# Altium schematic symbol library Amplifier_Operational.SchLib: 414 symbols (part 1 of 5)
Pins are listed as number, name and electrical type; pins without a type are passive.

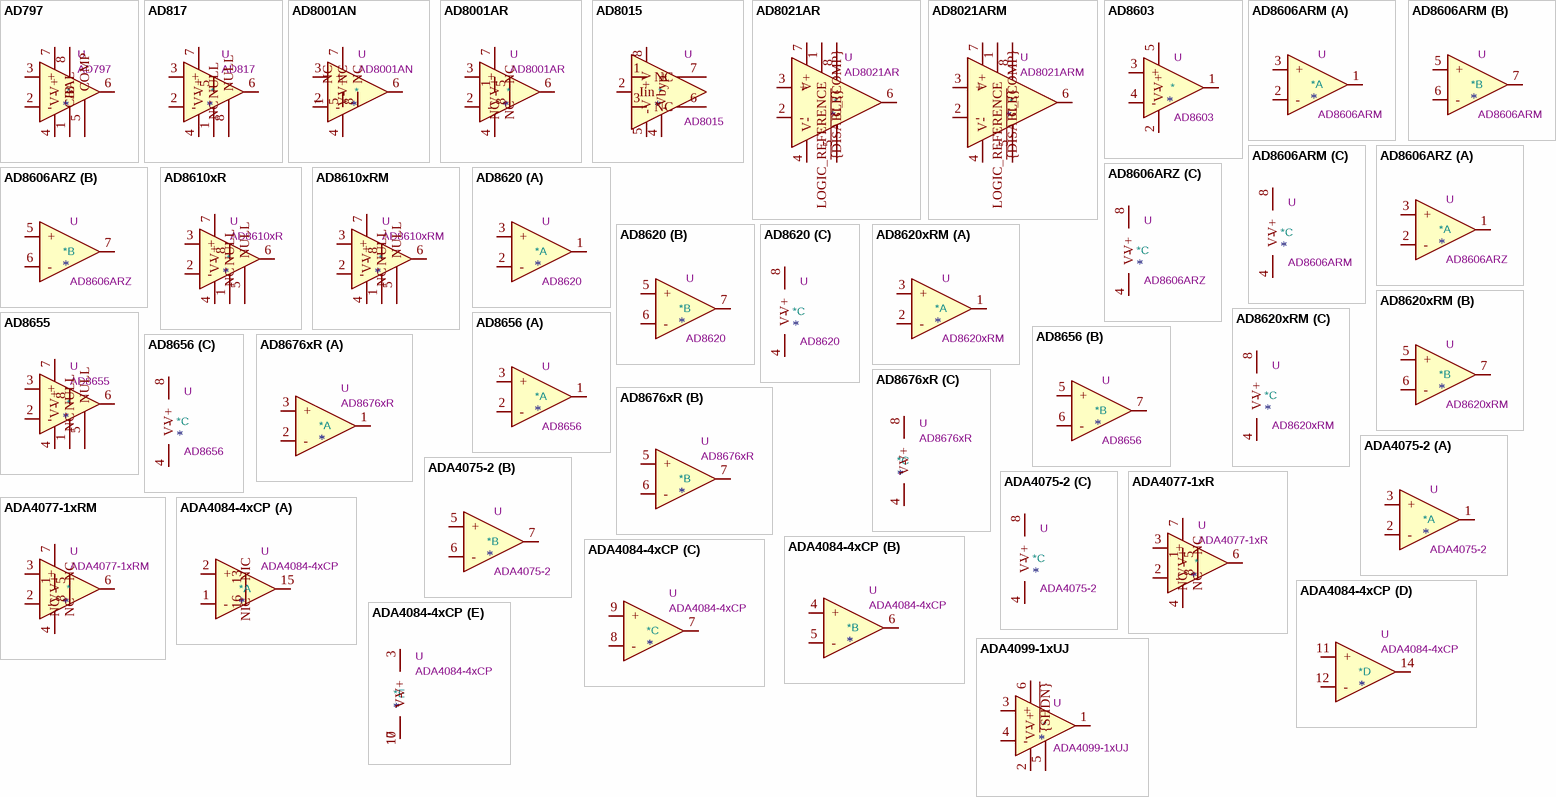
[diagram p0: symbols AD797 to ADA4099-1xUJ]

## AD797
designator *  value AD797  Reference: U
Ultralow Distortion, Ultralow Noise Op Amp, DIP-8/SOIC-8; ki_keywords: single opamp; ki_fp_filters: DIP*W7.62mm* SOIC*3.9x4.9mm*P1.27mm*; Datasheet: https://www.analog.com/media/en/technical-documentation/data-sheets/AD797.pdf; Description_: Ultralow Distortion, Ultralow Noise Op Amp, DIP-8/SOIC-8
pins: 1 BAL, 2 -, 3 +, 4 V-, 5 COMP, 6, 7 V+, 8 C/B

## AD817
designator *  value AD817  Reference: U
High Speed, Low Power Wide Supply Range Operational Amplifier, DIP-8/SOIC-8; ki_keywords: single opamp; ki_fp_filters: DIP?8?W7.62mm* SO?8?3.9x4.9mm*P1.27mm*; Datasheet: https://www.analog.com/media/en/technical-documentation/data-sheets/ad817.pdf; Description_: High Speed, Low Power Wide Supply Range Operational Amplifier, DIP-8/SOIC-8
pins: 1 NULL, 2 -, 3 +, 4 V-, 5 NC, 6, 7 V+, 8 NULL

## AD8001AN
designator *  value AD8001AN  Reference: U
Current Feedback Amplifier, 800 MHz, 50mW, DIP-8; ki_keywords: single opamp; ki_fp_filters: DIP*W7.62mm*; Footprint: Package_DIP:DIP-8_W7.62mm; Datasheet: https://www.analog.com/media/en/technical-documentation/data-sheets/ad8001.pdf; Description_: Current Feedback Amplifier, 800 MHz, 50mW, DIP-8
pins: 1 NC, 2 -, 3 +, 4 V-, 5 NC, 6, 7 V+, 8 NC

## AD8001AR
designator *  value AD8001AR  Reference: U
Current Feedback Amplifier, 800 MHz, 50mW, SOIC-8; ki_keywords: single opamp; ki_fp_filters: SOIC*3.9x4.9mm*P1.27mm*; Footprint: Package_SO:SOIC-8_3.9x4.9mm_P1.27mm; Datasheet: https://www.analog.com/media/en/technical-documentation/data-sheets/ad8001.pdf; Description_: Current Feedback Amplifier, 800 MHz, 50mW, SOIC-8
pins: 1 NC, 2 -, 3 +, 4 V-, 5 NC, 6, 7 V+, 8 NC

## AD8015
designator *  value AD8015  Reference: U
Wideband/Differential Output Transimpedance Amplifier, SOIC-8; ki_keywords: amplifier transimpedance differential optical receiver; ki_fp_filters: SOIC*3.9x4.9mm*P1.27mm*; Footprint: Package_SO:SOIC-8_3.9x4.9mm_P1.27mm; Datasheet: https://www.analog.com/media/en/technical-documentation/data-sheets/AD8015.pdf; Description_: Wideband/Differential Output Transimpedance Amplifier, SOIC-8
pins: 1 NC, 2 Iin, 3 NC, 4 Vbyp, 5 -V, 6 -, 7 +, 8 +V

## AD8021AR
designator *  value AD8021AR  Reference: U
Operational Amplifier, 4.5-24V single/dual supply, low noise, high speed, SOIC-8; ki_keywords: Opamp; ki_fp_filters: SOIC*3.9x4.9mm*P1.27mm*; Footprint: Package_SO:SOIC-8_3.9x4.9mm_P1.27mm; Datasheet: https://www.analog.com/media/en/technical-documentation/data-sheets/AD8021.pdf; Description_: Operational Amplifier, 4.5-24V single/dual supply, low noise, high speed, SOIC-8
pins: 1 LOGIC_REFERENCE, 2 -, 3 +, 4 V-, 5 C_{COMP}, 6, 7 V+, 8 ~{{DISABLE}}

## AD8021ARM
designator *  value AD8021ARM  Reference: U
Operational Amplifier, 4.5-24V single/dual supply, low noise, high speed, MSOP-8; ki_keywords: Opamp; ki_fp_filters: MSOP*3x3mm*P0.65mm*; Footprint: Package_SO:MSOP-8_3x3mm_P0.65mm; Datasheet: https://www.analog.com/media/en/technical-documentation/data-sheets/AD8021.pdf; Description_: Operational Amplifier, 4.5-24V single/dual supply, low noise, high speed, MSOP-8
pins: 1 LOGIC_REFERENCE, 2 -, 3 +, 4 V-, 5 C_{COMP}, 6, 7 V+, 8 ~{{DISABLE}}

## AD8603
designator *  value AD8603  Reference: U
Precision Micropower, Low Noise CMOS, Rail-to-Rail Input/Output Operational Amplifier, TSOT-23-5; ki_keywords: single opamp; ki_fp_filters: TSOT*23*; Footprint: Package_TO_SOT_SMD:TSOT-23-5; Datasheet: https://www.analog.com/media/en/technical-documentation/data-sheets/AD8603_8607_8609.pdf; Description_: Precision Micropower, Low Noise CMOS, Rail-to-Rail Input/Output Operational Amplifier, TSOT-23-5
pins: 1, 2 V-, 3 +, 4 -, 5 V+

## AD8606ARM
designator *  value AD8606ARM  Reference: U
Dual Precision Low Noise, Low Input Bias Current, Wide Bandwidth Operational Amplifiers, MSOP-8; ki_keywords: dual opamp; ki_fp_filters: MSOP*3x3mm*P0.65mm*; Footprint: Package_SO:MSOP-8_3x3mm_P0.65mm; Datasheet: https://www.analog.com/media/en/technical-documentation/data-sheets/AD8605_8606_8608.pdf; Description_: Dual Precision Low Noise, Low Input Bias Current, Wide Bandwidth Operational Amplifiers, MSOP-8
part A pins: 1, 2 -, 3 +
part B pins: 5 +, 6 -, 7
part C pins: 4 V-, 8 V+

## AD8606ARZ
designator *  value AD8606ARZ  Reference: U
Dual Precision Low Noise, Low Input Bias Current, Wide Bandwidth Operational Amplifiers, SOIC-8; ki_keywords: dual opamp; ki_fp_filters: SOIC*3.9x4.9mm*P1.27mm*; Footprint: Package_SO:SOIC-8_3.9x4.9mm_P1.27mm; Datasheet: https://www.analog.com/media/en/technical-documentation/data-sheets/AD8605_8606_8608.pdf; Description_: Dual Precision Low Noise, Low Input Bias Current, Wide Bandwidth Operational Amplifiers, SOIC-8
part A pins: 1, 2 -, 3 +
part B pins: 5 +, 6 -, 7
part C pins: 4 V-, 8 V+

## AD8610xR
designator *  value AD8610xR  Reference: U
Single Precision, Very Low Noise, Low Input Bias Current, Wide Bandwidth JFET Operational Amplifiers, SOIC-8; ki_keywords: single opamp; ki_fp_filters: SOIC*3.9x4.9mm*P1.27mm*; Footprint: Package_SO:SOIC-8_3.9x4.9mm_P1.27mm; Datasheet: https://www.analog.com/media/en/technical-documentation/data-sheets/AD8610_8620.pdf; Description_: Single Precision, Very Low Noise, Low Input Bias Current, Wide Bandwidth JFET Operational Amplifiers, SOIC-8
pins: 1 NULL, 2 -, 3 +, 4 V-, 5 NULL, 6, 7 V+, 8 NC

## AD8610xRM
designator *  value AD8610xRM  Reference: U
Single Precision, Very Low Noise, Low Input Bias Current, Wide Bandwidth JFET Operational Amplifiers, MSOP-8; ki_keywords: single opamp; ki_fp_filters: MSOP*3x3mm*P0.65mm*; Footprint: Package_SO:MSOP-8_3x3mm_P0.65mm; Datasheet: https://www.analog.com/media/en/technical-documentation/data-sheets/AD8610_8620.pdf; Description_: Single Precision, Very Low Noise, Low Input Bias Current, Wide Bandwidth JFET Operational Amplifiers, MSOP-8
pins: 1 NULL, 2 -, 3 +, 4 V-, 5 NULL, 6, 7 V+, 8 NC

## AD8620
designator *  value AD8620  Reference: U
Dual Precision, Very Low Noise, Low Input Bias Current, Wide Bandwidth JFET Operational Amplifiers, SOIC-8; ki_keywords: dual opamp; ki_fp_filters: SOIC*3.9x4.9mm*P1.27mm*; Footprint: Package_SO:SOIC-8_3.9x4.9mm_P1.27mm; Datasheet: https://www.analog.com/media/en/technical-documentation/data-sheets/AD8610_8620.pdf; Description_: Dual Precision, Very Low Noise, Low Input Bias Current, Wide Bandwidth JFET Operational Amplifiers, SOIC-8
part A pins: 1, 2 -, 3 +
part B pins: 5 +, 6 -, 7
part C pins: 4 V-, 8 V+

## AD8620xRM
designator *  value AD8620xRM  Reference: U
Dual Precision, Very Low Noise, Low Input Bias Current, Wide Bandwidth JFET Operational Amplifiers, MSOP-8; ki_keywords: dual opamp; ki_fp_filters: MSOP*3x3mm*P0.65mm*; Footprint: Package_SO:MSOP-8_3x3mm_P0.65mm; Datasheet: https://www.analog.com/media/en/technical-documentation/data-sheets/AD8610_8620.pdf; Description_: Dual Precision, Very Low Noise, Low Input Bias Current, Wide Bandwidth JFET Operational Amplifiers, MSOP-8
part A pins: 1, 2 -, 3 +
part B pins: 5 +, 6 -, 7
part C pins: 4 V-, 8 V+

## AD8655
designator *  value AD8655  Reference: U
Single Low Noise, Precision CMOS Amplifier; ki_keywords: single opamp; ki_fp_filters: SOIC*3.9x4.9mm*P1.27mm* MSOP*3x3mm*P0.65mm*; Datasheet: https://www.analog.com/media/en/technical-documentation/data-sheets/ad8655_8656.pdf; Description_: Single Low Noise, Precision CMOS Amplifier
pins: 1 NULL, 2 -, 3 +, 4 V-, 5 NULL, 6, 7 V+, 8 NC

## AD8656
designator *  value AD8656  Reference: U
Dual Low Noise, Precision CMOS Amplifier; ki_keywords: dual opamp; ki_fp_filters: SOIC*3.9x4.9mm*P1.27mm* MSOP*3x3mm*P0.65mm*; Datasheet: https://www.analog.com/media/en/technical-documentation/data-sheets/ad8655_8656.pdf; Description_: Dual Low Noise, Precision CMOS Amplifier
part A pins: 1, 2 -, 3 +
part B pins: 5 +, 6 -, 7
part C pins: 4 V-, 8 V+

## AD8676xR
designator *  value AD8676xR  Reference: U
Dual operational amplifier, Ultra-precision, 36V, Rail-to-rail output, SOIC-8; ki_keywords: dual opamp precision high-voltage RRO RTR; ki_fp_filters: SOIC*3.9x4.9mm*P1.27mm*; Footprint: Package_SO:SOIC-8_3.9x4.9mm_P1.27mm; Datasheet: https://www.analog.com/media/en/technical-documentation/data-sheets/AD8676.pdf; Description_: Dual operational amplifier, Ultra-precision, 36V, Rail-to-rail output, SOIC-8
part A pins: 1, 2 -, 3 +
part B pins: 5 +, 6 -, 7
part C pins: 4 V-, 8 V+

## ADA4075-2
designator *  value ADA4075-2  Reference: U
Ultralow Noise Amplifier at Lower Power, SOIC-8/LFCSP-8; ki_keywords: dual low-power opamp; ki_fp_filters: SOIC*3.9x4.9mm*P1.27mm* DIP*W7.62mm* TO*99* OnSemi*Micro8* TSSOP*3x3mm*P0.65mm* TSSOP*4.4x3mm*P0.65mm* MSOP*3x3mm*P0.65mm* SSOP*3.9x4.9mm*P0.635mm* LFCSP*2x2mm*P0.5mm* *SIP* SOIC*5.3x6.2mm*P1.27mm*; Datasheet: https://www.analog.com/static/imported-files/data_sheets/ADA4075-2.pdf; Description_: Ultralow Noise Amplifier at Lower Power, SOIC-8/LFCSP-8
part A pins: 1, 2 -, 3 +
part B pins: 5 +, 6 -, 7
part C pins: 4 V-, 8 V+

## ADA4077-1xR
designator *  value ADA4077-1xR  Reference: U
4MHz, 7nV/sqrtHz, Low Offset and Drift, High Precision Amplifier, SOIC-8; ki_keywords: single opamp; ki_fp_filters: SOIC*3.9x4.9mm*P1.27mm*; Footprint: Package_SO:SOIC-8_3.9x4.9mm_P1.27mm; Datasheet: https://www.analog.com/media/en/technical-documentation/data-sheets/ADA4077-1_4077-2_4077-4.pdf; Description_: 4MHz, 7nV/sqrtHz, Low Offset and Drift, High Precision Amplifier, SOIC-8
pins: 1 NC, 2 -, 3 +, 4 V-, 5 NC, 6, 7 V+, 8 NC

## ADA4077-1xRM
designator *  value ADA4077-1xRM  Reference: U
4MHz, 7nV/sqrtHz, Low Offset and Drift, High Precision Amplifier, MSOP-8; ki_keywords: single opamp; ki_fp_filters: MSOP*3x3mm*P0.65mm*; Footprint: Package_SO:MSOP-8_3x3mm_P0.65mm; Datasheet: https://www.analog.com/media/en/technical-documentation/data-sheets/ADA4077-1_4077-2_4077-4.pdf; Description_: 4MHz, 7nV/sqrtHz, Low Offset and Drift, High Precision Amplifier, MSOP-8
pins: 1 NC, 2 -, 3 +, 4 V-, 5 NC, 6, 7 V+, 8 NC

## ADA4084-4xCP
designator *  value ADA4084-4xCP  Reference: U
30V Quad Low Noise, Rail-to-Rail Input/Output, Low Power Operational Amplifier, LFCSP-16; ki_keywords: quad opamp; ki_fp_filters: LFCSP*4x4mm*P0.65mm*EP2.6x2.6mm*; Footprint: Package_CSP:LFCSP-16-1EP_4x4mm_P0.65mm_EP2.6x2.6mm; Datasheet: https://www.analog.com/media/en/technical-documentation/data-sheets/ADA4084-1_4084-2_4084-4.pdf; Description_: 30V Quad Low Noise, Rail-to-Rail Input/Output, Low Power Operational Amplifier, LFCSP-16
part A pins: 1 -, 2 +, 13 NIC, 15, 16 NIC
part B pins: 4 +, 5 -, 6
part C pins: 7, 8 -, 9 +
part D pins: 11 +, 12 -, 14
part E pins: 3 V+, 10 V-, 17 V-

## ADA4099-1xUJ
designator *  value ADA4099-1xUJ  Reference: U
3.15..50V supply, 8MHz GBW, Rail-to-Rail input/output, over-the-top opamp with shutdown, TSOT-6; ki_keywords: single operational amplifier analog-devices high-voltage rrio; ki_fp_filters: TSOT?23*; Footprint: Package_TO_SOT_SMD:TSOT-23-6; Datasheet: https://www.analog.com/media/en/technical-documentation/data-sheets/ada4099-1_ada4099-2.pdf; Description_: 3.15..50V supply, 8MHz GBW, Rail-to-Rail input/output, over-the-top opamp with shutdown, TSOT-6
pins: 1, 2 V-, 3 +, 4 -, 5 ~{{SHDN}}, 6 V+

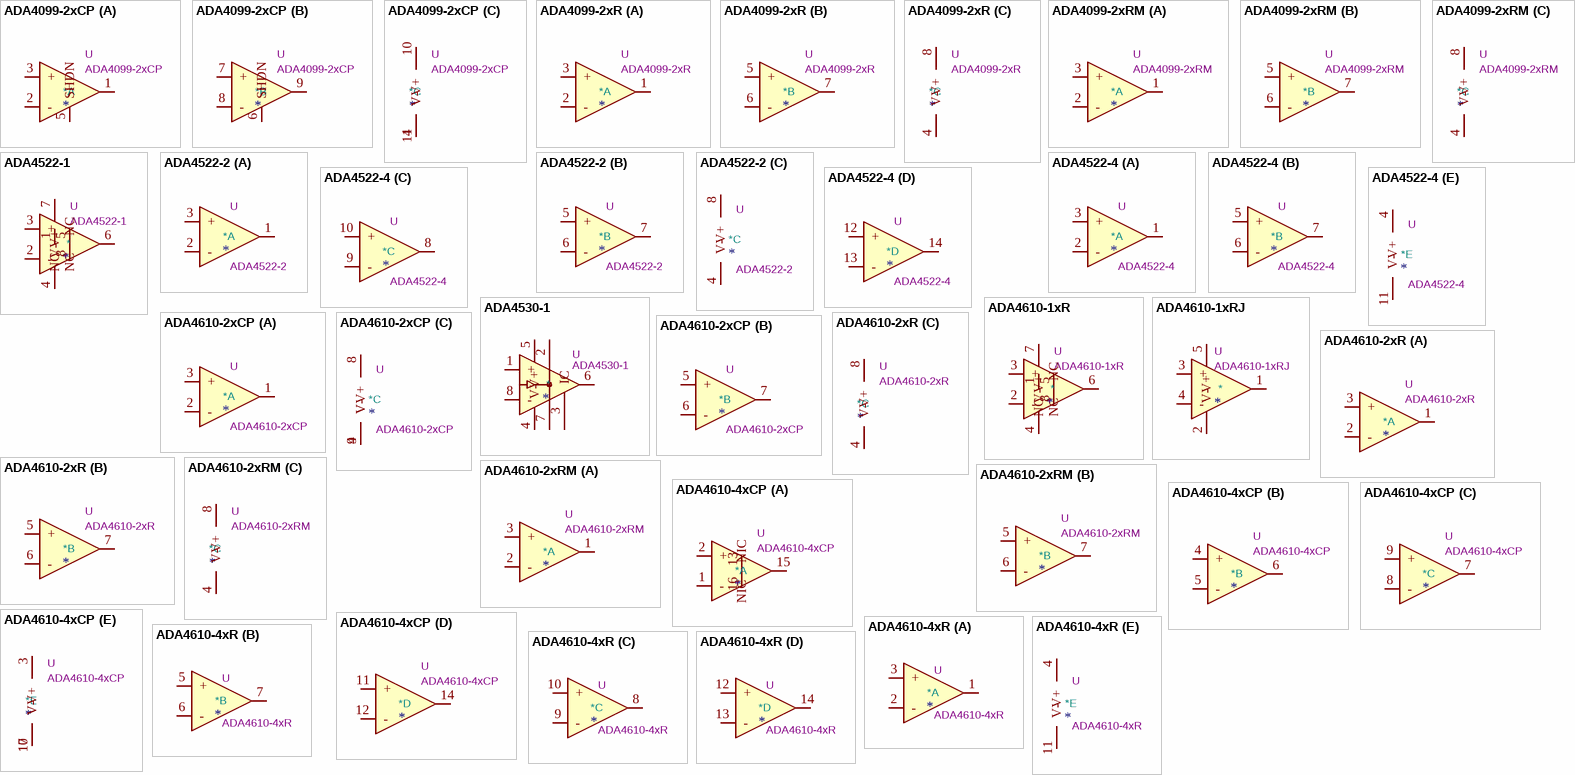
[diagram p1: symbols ADA4099-2xCP to ADA4610-4xR]

## ADA4099-2xCP
designator *  value ADA4099-2xCP  Reference: U
3.15..50V supply, 8MHz GBW, Rail-to-Rail input/output, over-the-top dual opamp with shutdown, LFCSP-10; ki_keywords: operational amplifier analog-devices high-voltage rrio enable; ki_fp_filters: LFCSP*1EP*3x3mm*P0.5mm*; Footprint: Package_CSP:LFCSP-WD-10-1EP_3x3mm_P0.5mm_EP1.64x2.38mm; Datasheet: https://www.analog.com/media/en/technical-documentation/data-sheets/ada4099-1_ada4099-2.pdf; Description_: 3.15..50V supply, 8MHz GBW, Rail-to-Rail input/output, over-the-top dual opamp with shutdown, LFCSP-10
part A pins: 1, 2 -, 3 +, 5 SHDN
part B pins: 6 SHDN, 7 +, 8 -, 9
part C pins: 4 V-, 10 V+, 11 V-

## ADA4099-2xR
designator *  value ADA4099-2xR  Reference: U
3.15..50V supply, 8MHz GBW, Rail-to-Rail input/output, over-the-top dual opamp, SOIC-8; ki_keywords: operational amplifier analog-devices high-voltage rrio; ki_fp_filters: SOIC*3.9x4.9mm*P1.27mm*; Footprint: Package_SO:SOIC-8_3.9x4.9mm_P1.27mm; Datasheet: https://www.analog.com/media/en/technical-documentation/data-sheets/ada4099-1_ada4099-2.pdf; Description_: 3.15..50V supply, 8MHz GBW, Rail-to-Rail input/output, over-the-top dual opamp, SOIC-8
part A pins: 1, 2 -, 3 +
part B pins: 5 +, 6 -, 7
part C pins: 4 V-, 8 V+

## ADA4099-2xRM
designator *  value ADA4099-2xRM  Reference: U
3.15..50V supply, 8MHz GBW, Rail-to-Rail input/output, over-the-top dual opamp, MSOP-8; ki_keywords: operational amplifier analog-devices high-voltage rrio; ki_fp_filters: MSOP*3x3mm*P0.65mm*; Footprint: Package_SO:MSOP-8_3x3mm_P0.65mm; Datasheet: https://www.analog.com/media/en/technical-documentation/data-sheets/ada4099-1_ada4099-2.pdf; Description_: 3.15..50V supply, 8MHz GBW, Rail-to-Rail input/output, over-the-top dual opamp, MSOP-8
part A pins: 1, 2 -, 3 +
part B pins: 5 +, 6 -, 7
part C pins: 4 V-, 8 V+

## ADA4522-1
designator *  value ADA4522-1  Reference: U
55 V supply, 5uV max Vos, 3MHz GBW, EMI Enhanced, Zero Drift, 5.8 nV/√Hz, RRO single operational amplifier; ki_keywords: analog-devices opamp chopper; ki_fp_filters: SOIC*3.9x4.9mm*P1.27mm* MSOP*3x3mm*P0.65mm*; Datasheet: https://www.analog.com/media/en/technical-documentation/data-sheets/ada4522-1_4522-2_4522-4.pdf; Description_: 55 V supply, 5uV max Vos, 3MHz GBW, EMI Enhanced, Zero Drift, 5.8 nV/√Hz, RRO single operational amplifier
pins: 1 NC, 2 -, 3 +, 4 V-, 5 NC, 6, 7 V+, 8 NC

## ADA4522-2
designator *  value ADA4522-2  Reference: U
55 V supply, 5uV max Vos, 3MHz GBW, EMI Enhanced, Zero Drift, 5.8 nV/√Hz, RRO dual operational amplifiers; ki_keywords: analog-devices opamp chopper; ki_fp_filters: SOIC*3.9x4.9mm*P1.27mm* MSOP*3x3mm*P0.65mm*; Datasheet: https://www.analog.com/media/en/technical-documentation/data-sheets/ada4522-1_4522-2_4522-4.pdf; Description_: 55 V supply, 5uV max Vos, 3MHz GBW, EMI Enhanced, Zero Drift, 5.8 nV/√Hz, RRO dual operational amplifiers
part A pins: 1, 2 -, 3 +
part B pins: 5 +, 6 -, 7
part C pins: 4 V-, 8 V+

## ADA4522-4
designator *  value ADA4522-4  Reference: U
55 V supply, 5uV max Vos, 3MHz GBW, EMI Enhanced, Zero Drift, 5.8 nV/√Hz, RRO quad operational amplifiers; ki_keywords: analog-devices opamp chopper; ki_fp_filters: SOIC*3.9x8.7mm*P1.27mm* TSSOP*4.4x5mm*P0.65mm*; Datasheet: https://www.analog.com/media/en/technical-documentation/data-sheets/ada4522-1_4522-2_4522-4.pdf; Description_: 55 V supply, 5uV max Vos, 3MHz GBW, EMI Enhanced, Zero Drift, 5.8 nV/√Hz, RRO quad operational amplifiers
part A pins: 1, 2 -, 3 +
part B pins: 5 +, 6 -, 7
part C pins: 8, 9 -, 10 +
part D pins: 12 +, 13 -, 14
part E pins: 4 V+, 11 V-

## ADA4530-1
designator *  value ADA4530-1  Reference: U
Femtoampere Input Bias Current Electrometer Amplifier, SOIC-8; ki_keywords: single opamp; ki_fp_filters: SOIC*3.9x4.9mm*P1.27mm*; Footprint: Package_SO:SOIC-8_3.9x4.9mm_P1.27mm; Datasheet: https://www.analog.com/media/en/technical-documentation/data-sheets/ADA4530-1.pdf; Description_: Femtoampere Input Bias Current Electrometer Amplifier, SOIC-8
pins: 1 +, 2, 3 IC, 4 V-, 5 V+, 6, 7, 8 -

## ADA4610-1xR
designator *  value ADA4610-1xR  Reference: U
Low Noise, Precision, Rail-to-Rail Output, JFET Single Op Amp, SOIC-8; ki_fp_filters: SOIC*3.9x4.9mm*P1.27mm*; Footprint: Package_SO:SOIC-8_3.9x4.9mm_P1.27mm; Datasheet: https://www.analog.com/media/en/technical-documentation/data-sheets/ADA4610-1_4610-2_4610-4.pdf; Description_: Low Noise, Precision, Rail-to-Rail Output, JFET Single Op Amp, SOIC-8; ki_keywords: single opamp
pins: 1 NC, 2 -, 3 +, 4 V-, 5 NC, 6, 7 V+, 8 NC

## ADA4610-1xRJ
designator *  value ADA4610-1xRJ  Reference: U
Low Noise, Precision, Rail-to-Rail Output, JFET Single Op Amp, SOT-23-5; ki_fp_filters: SOT?23*; Footprint: Package_TO_SOT_SMD:SOT-23-5; Datasheet: https://www.analog.com/media/en/technical-documentation/data-sheets/ADA4610-1_4610-2_4610-4.pdf; Description_: Low Noise, Precision, Rail-to-Rail Output, JFET Single Op Amp, SOT-23-5; ki_keywords: single opamp
pins: 1, 2 V-, 3 +, 4 -, 5 V+

## ADA4610-2xCP
designator *  value ADA4610-2xCP  Reference: U
Dual Low Noise, Precision, Rail-to-Rail Output, JFET Op Amp, LFCSP-8; ki_keywords: dual opamp; ki_fp_filters: LFCSP*1EP*3x3mm*P0.5mm*; Footprint: Package_CSP:LFCSP-8-1EP_3x3mm_P0.5mm_EP1.6x2.34mm; Datasheet: https://www.analog.com/media/en/technical-documentation/data-sheets/ADA4610-1_4610-2_4610-4.pdf; Description_: Dual Low Noise, Precision, Rail-to-Rail Output, JFET Op Amp, LFCSP-8
part A pins: 1, 2 -, 3 +
part B pins: 5 +, 6 -, 7
part C pins: 4 V-, 8 V+, 9 V-

## ADA4610-2xR
designator *  value ADA4610-2xR  Reference: U
Dual Low Noise, Precision, Rail-to-Rail Output, JFET Op Amp, SOIC-8; ki_keywords: dual opamp; ki_fp_filters: SOIC*3.9x4.9mm*P1.27mm*; Footprint: Package_SO:SOIC-8_3.9x4.9mm_P1.27mm; Datasheet: https://www.analog.com/media/en/technical-documentation/data-sheets/ADA4610-1_4610-2_4610-4.pdf; Description_: Dual Low Noise, Precision, Rail-to-Rail Output, JFET Op Amp, SOIC-8
part A pins: 1, 2 -, 3 +
part B pins: 5 +, 6 -, 7
part C pins: 4 V-, 8 V+

## ADA4610-2xRM
designator *  value ADA4610-2xRM  Reference: U
Dual Low Noise, Precision, Rail-to-Rail Output, JFET Op Amp, MSOP-8; ki_keywords: dual opamp; ki_fp_filters: MSOP*3x3mm*P0.65mm*; Footprint: Package_SO:MSOP-8_3x3mm_P0.65mm; Datasheet: https://www.analog.com/media/en/technical-documentation/data-sheets/ADA4610-1_4610-2_4610-4.pdf; Description_: Dual Low Noise, Precision, Rail-to-Rail Output, JFET Op Amp, MSOP-8
part A pins: 1, 2 -, 3 +
part B pins: 5 +, 6 -, 7
part C pins: 4 V-, 8 V+

## ADA4610-4xCP
designator *  value ADA4610-4xCP  Reference: U
Quad Low Noise, Precision, Rail-to-Rail Output, JFET Op Amp, LFCSP-16; ki_keywords: quad opamp; ki_fp_filters: LFCSP*1EP*4x4mm*P0.65mm*; Footprint: Package_CSP:LFCSP-16-1EP_4x4mm_P0.65mm_EP2.1x2.1mm; Datasheet: https://www.analog.com/media/en/technical-documentation/data-sheets/ADA4610-1_4610-2_4610-4.pdf; Description_: Quad Low Noise, Precision, Rail-to-Rail Output, JFET Op Amp, LFCSP-16
part A pins: 1 -, 2 +, 13 NIC, 15, 16 NIC
part B pins: 4 +, 5 -, 6
part C pins: 7, 8 -, 9 +
part D pins: 11 +, 12 -, 14
part E pins: 3 V+, 10 V-, 17 V-

## ADA4610-4xR
designator *  value ADA4610-4xR  Reference: U
Quad Low Noise, Precision, Rail-to-Rail Output, JFET Single Op Amp, SOIC-14; ki_keywords: quad opamp low-power; ki_fp_filters: SOIC*3.9x8.7mm*P1.27mm*; Footprint: Package_SO:SOIC-14_3.9x8.7mm_P1.27mm; Datasheet: https://www.analog.com/media/en/technical-documentation/data-sheets/ADA4610-1_4610-2_4610-4.pdf; Description_: Quad Low Noise, Precision, Rail-to-Rail Output, JFET Single Op Amp, SOIC-14
part A pins: 1, 2 -, 3 +
part B pins: 5 +, 6 -, 7
part C pins: 8, 9 -, 10 +
part D pins: 12 +, 13 -, 14
part E pins: 4 V+, 11 V-

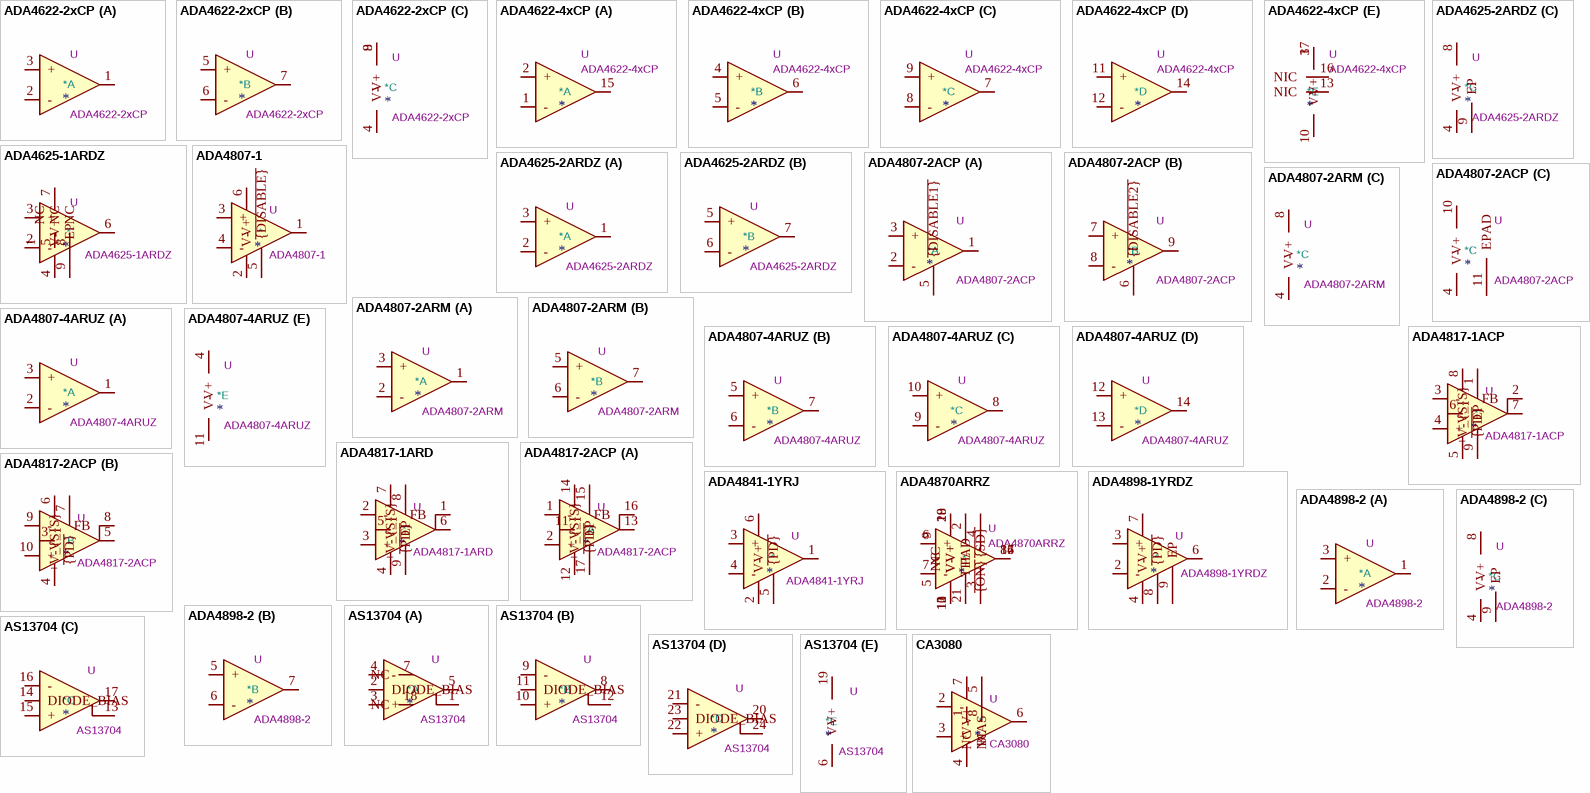
[diagram p2: symbols ADA4622-2xCP to CA3080]

## ADA4622-2xCP
designator *  value ADA4622-2xCP  Reference: U
Analog Devices Dual 30V, 8MHz, Low Bias Current, Single Supply, RRO, Precision Op Amp, LFCSP-8; ki_keywords: dual opamp; ki_fp_filters: *LFCSP*1EP*3x3mm*P0.5mm*; Footprint: Package_CSP:LFCSP-8-1EP_3x3mm_P0.5mm_EP1.45x1.74mm; Datasheet: https://www.analog.com/media/en/technical-documentation/data-sheets/ada4622-1-4622-2-4622-4.pdf; Description_: Analog Devices Dual 30V, 8MHz, Low Bias Current, Single Supply, RRO, Precision Op Amp, LFCSP-8
part A pins: 1, 2 -, 3 +
part B pins: 5 +, 6 -, 7
part C pins: 4 V-, 8 V+, 9 V+

## ADA4622-4xCP
designator *  value ADA4622-4xCP  Reference: U
Analog Devices Quad 30V, 8MHz, Low Bias Current, Single Supply, RRO, Precision Op Amp, LFCSP-16; ki_keywords: quad opamp; ki_fp_filters: *LFCSP*1EP*4x4mm*P0.65mm*; Footprint: Package_CSP:Analog_LFCSP-16-1EP_4x4mm_P0.65mm_EP2.35x2.35mm; Datasheet: https://www.analog.com/media/en/technical-documentation/data-sheets/ada4622-1-4622-2-4622-4.pdf; Description_: Analog Devices Quad 30V, 8MHz, Low Bias Current, Single Supply, RRO, Precision Op Amp, LFCSP-16
part A pins: 1 -, 2 +, 15
part B pins: 4 +, 5 -, 6
part C pins: 7, 8 -, 9 +
part D pins: 11 +, 12 -, 14
part E pins: 3 V+, 10 V-, 13 NIC, 16 NIC, 17 V+

## ADA4625-1ARDZ
designator *  value ADA4625-1ARDZ  Reference: U
Single 5V..36V/±2.5V..±18V supply, 18 MHz, 48V/µs slew rate, ±80 µV offset, RRO, Fast-settling single JFET Op Amp, SOIC-8-1EP; ki_keywords: analog-devices adi operational amplifier; ki_fp_filters: SOIC*1EP*3.9x4.9mm*P1.27mm*; Footprint: Package_SO:SOIC-8-1EP_3.9x4.9mm_P1.27mm_EP2.29x3mm; Datasheet: https://www.analog.com/media/en/technical-documentation/data-sheets/ADA4625-1-4625-2.pdf; Description_: Single 5V..36V/±2.5V..±18V supply, 18 MHz, 48V/µs slew rate, ±80 µV offset, RRO, Fast-settling single JFET Op Amp, SOIC-8-1EP
pins: 1 NC, 2 -, 3 +, 4 V-, 5 NC, 6, 7 V+, 8 NC, 9 EP

## ADA4625-2ARDZ
designator *  value ADA4625-2ARDZ  Reference: U
Dual 5V..36V/±2.5V..±18V supply, 18 MHz, 48V/µs slew rate, ±80 µV offset, RRO, Fast-settling JFET Op Amp, SOIC-8-1EP; ki_keywords: analog-devices adi operational amplifier; ki_fp_filters: SOIC*1EP*3.9x4.9mm*P1.27mm*; Footprint: Package_SO:SOIC-8-1EP_3.9x4.9mm_P1.27mm_EP2.29x3mm; Datasheet: https://www.analog.com/media/en/technical-documentation/data-sheets/ADA4625-1-4625-2.pdf; Description_: Dual 5V..36V/±2.5V..±18V supply, 18 MHz, 48V/µs slew rate, ±80 µV offset, RRO, Fast-settling JFET Op Amp, SOIC-8-1EP
part A pins: 1, 2 -, 3 +
part B pins: 5 +, 6 -, 7
part C pins: 4 V-, 8 V+, 9 EP

## ADA4807-1
designator *  value ADA4807-1  Reference: U
Single Rail-to-Rail Input/Output Amplifiers, with disable, SC-70-6/SOT-23-6; ki_keywords: single opamp; ki_fp_filters: *SC*70* SOT?23*; Datasheet: https://www.analog.com/media/en/technical-documentation/data-sheets/ADA4807-1_4807-2_4807-4.pdf; Description_: Single Rail-to-Rail Input/Output Amplifiers, with disable, SC-70-6/SOT-23-6
pins: 1, 2 V-, 3 +, 4 -, 5 ~{{DISABLE}}, 6 V+

## ADA4807-2ACP
designator *  value ADA4807-2ACP  Reference: U
Dual Rail-to-Rail Input/Output Amplifiers, with disable, SC-70-6/SOT-23-6; ki_keywords: dual opamp; ki_fp_filters: *LFCSP*1EP*3x3mm*P0.5mm*; Footprint: Package_CSP:LFCSP-WD-10-1EP_3x3mm_P0.5mm_EP1.64x2.38mm; Datasheet: https://www.analog.com/media/en/technical-documentation/data-sheets/ADA4807-1_4807-2_4807-4.pdf; Description_: Dual Rail-to-Rail Input/Output Amplifiers, with disable, SC-70-6/SOT-23-6
part A pins: 1, 2 -, 3 +, 5 ~{{DISABLE1}}
part B pins: 6 ~{{DISABLE2}}, 7 +, 8 -, 9
part C pins: 4 V-, 10 V+, 11 EPAD

## ADA4807-2ARM
designator *  value ADA4807-2ARM  Reference: U
Dual Rail-to-Rail Input/Output Amplifiers, MSOP-8; ki_keywords: dual opamp; ki_fp_filters: MSOP*3x3mm*P0.65mm*; Footprint: Package_SO:MSOP-8_3x3mm_P0.65mm; Datasheet: https://www.analog.com/media/en/technical-documentation/data-sheets/ADA4807-1_4807-2_4807-4.pdf; Description_: Dual Rail-to-Rail Input/Output Amplifiers, MSOP-8
part A pins: 1, 2 -, 3 +
part B pins: 5 +, 6 -, 7
part C pins: 4 V-, 8 V+

## ADA4807-4ARUZ
designator *  value ADA4807-4ARUZ  Reference: U
Quad Rail-to-Rail Input/Output Amplifiers, TSSOP-14; ki_keywords: quad opamp; ki_fp_filters: TSSOP*4.4x5mm*P0.65mm*; Footprint: Package_SO:TSSOP-14_4.4x5mm_P0.65mm; Datasheet: https://www.analog.com/media/en/technical-documentation/data-sheets/ADA4807-1_4807-2_4807-4.pdf; Description_: Quad Rail-to-Rail Input/Output Amplifiers, TSSOP-14
part A pins: 1, 2 -, 3 +
part B pins: 5 +, 6 -, 7
part C pins: 8, 9 -, 10 +
part D pins: 12 +, 13 -, 14
part E pins: 4 V+, 11 V-

## ADA4817-1ACP
designator *  value ADA4817-1ACP  Reference: U
Single Low Noise, 1 GHz, Unity-gain stable, FastFET Op Amp, with power down, LFCSP-8-1EP; ki_keywords: single opamp; ki_fp_filters: LFCSP*1EP*3x3mm*P0.5mm*; Footprint: Package_CSP:LFCSP-8-1EP_3x3mm_P0.5mm_EP1.45x1.74mm; Datasheet: https://www.analog.com/media/en/technical-documentation/data-sheets/ADA4817-1_4817-2.pdf; Description_: Single Low Noise, 1 GHz, Unity-gain stable, FastFET Op Amp, with power down, LFCSP-8-1EP
pins: 1 ~{{PD}}, 2 FB, 3 -, 4 +, 5 -V_{S}, 6, 7, 8 +V_{S}, 9 EP

## ADA4817-1ARD
designator *  value ADA4817-1ARD  Reference: U
Single Low Noise, 1 GHz, Unity-gain stable, FastFET Op Amp, with power down, SOIC-8-1EP; ki_keywords: single opamp; ki_fp_filters: SOIC*1EP*3.9x4.9mm*P1.27mm*; Footprint: Package_SO:SOIC-8-1EP_3.9x4.9mm_P1.27mm_EP2.29x3mm; Datasheet: https://www.analog.com/media/en/technical-documentation/data-sheets/ADA4817-1_4817-2.pdf; Description_: Single Low Noise, 1 GHz, Unity-gain stable, FastFET Op Amp, with power down, SOIC-8-1EP
pins: 1 FB, 2 -, 3 +, 4 -V_{S}, 5, 6, 7 +V_{S}, 8 ~{{PD}}, 9 EP

## ADA4817-2ACP
designator *  value ADA4817-2ACP  Reference: U
Dual Low Noise, 1 GHz, Unity-gain stable, FastFET Op Amp, with power down, LFCSP-16-1EP; ki_keywords: dual opamp; ki_fp_filters: *LFCSP*1EP*4x4mm*P0.65mm*; Footprint: Package_CSP:Analog_LFCSP-16-1EP_4x4mm_P0.65mm_EP2.35x2.35mm; Datasheet: https://www.analog.com/media/en/technical-documentation/data-sheets/ADA4817-1_4817-2.pdf; Description_: Dual Low Noise, 1 GHz, Unity-gain stable, FastFET Op Amp, with power down, LFCSP-16-1EP
part A pins: 1 -, 2 +, 11, 12 -V_{S}, 13, 14 +V_{S}, 15 ~{{PD}}, 16 FB, 17 EP
part B pins: 3, 4 -V_{S}, 5, 6 +V_{S}, 7 ~{{PD}}, 8 FB, 9 -, 10 +

## ADA4841-1YRJ
designator *  value ADA4841-1YRJ  Reference: U
Low Power, Low Noise and Distorsion, Rail-to-Rail Output Amplifier, SOT-23-6; ki_keywords: single opamp low-noise rail-to-rail; ki_fp_filters: SOT?23*; Footprint: Package_TO_SOT_SMD:SOT-23-6; Datasheet: https://www.analog.com/media/en/technical-documentation/data-sheets/ADA4841-1_4841-2.pdf; Description_: Low Power, Low Noise and Distorsion, Rail-to-Rail Output Amplifier, SOT-23-6
pins: 1, 2 V-, 3 +, 4 -, 5 ~{{PD}}, 6 V+

## ADA4870ARRZ
designator *  value ADA4870ARRZ  Reference: U
High Speed, High Voltage, 1A Output Drive Amplifier, PSOP-20; ki_keywords: single opamp; ki_fp_filters: HSOP*1EP*11.0x15.9mm*P1.27mm*SlugDown*; Footprint: Package_SO:HSOP-20-1EP_11.0x15.9mm_P1.27mm_SlugDown_ThermalVias; Datasheet: www.analog.com/media/en/technical-documentation/data-sheets/ADA4870.pdf; Description_: High Speed, High Voltage, 1A Output Drive Amplifier, PSOP-20
pins: 1 V+, 2 TFL, 3 ~{{SD}}, 4 ~{{ON}}, 5 NC, 6 +, 7 -, 8, 9 NC, 10 V-, 11 V-, 12 V-, 13 V-, 14, 15, 16, 17, 18 V+, 19 V+, 20 V+, 21 PAD

## ADA4898-1YRDZ
designator *  value ADA4898-1YRDZ  Reference: U
High Voltage, Low Noise, Low Distortion, Unity-Gain Stable, High Speed Op Amp, SOIC-8; ki_keywords: opamp single low noise low distortion; ki_fp_filters: SOIC*1EP*3.9x4.9mm*P1.27mm*; Footprint: Package_SO:SOIC-8-1EP_3.9x4.9mm_P1.27mm_EP2.29x3mm; Datasheet: https://www.analog.com/media/en/technical-documentation/data-sheets/ada4898-1_4898-2.pdf; Description_: High Voltage, Low Noise, Low Distortion, Unity-Gain Stable, High Speed Op Amp, SOIC-8
pins: 2 -, 3 +, 4 V-, 6, 7 V+, 8 ~{{PD}}, 9 EP

## ADA4898-2
designator *  value ADA4898-2  Reference: U
Dual High Voltage, Low Noise, Low Distortion, Unity-Gain Stable, High Speed Op Amp, SOIC-8-1EP; ki_keywords: opamp dual low noise low distortion; ki_fp_filters: SOIC*1EP*3.9x4.9mm*P1.27mm*; Footprint: Package_SO:SOIC-8-1EP_3.9x4.9mm_P1.27mm_EP2.41x3.81mm; Datasheet: https://www.analog.com/media/en/technical-documentation/data-sheets/ada4898-1_4898-2.pdf; Description_: Dual High Voltage, Low Noise, Low Distortion, Unity-Gain Stable, High Speed Op Amp, SOIC-8-1EP
part A pins: 1, 2 -, 3 +
part B pins: 5 +, 6 -, 7
part C pins: 4 V-, 8 V+, 9 EP

## AS13704
designator *  value AS13704  Reference: U
Quad Operational Transconductance Amplifiers (OTA), with linearizing diodes, SSOP24; ki_keywords: operational transconductance amplifier OTA; ki_fp_filters: SSOP*3.9x8.7mm*P0.635mm*; Footprint: Package_SO:SSOP-24_3.9x8.7mm_P0.635mm; Datasheet: http://www.alfarzpp.lv/eng/sc/AS13704.pdf; Description_: Quad Operational Transconductance Amplifiers (OTA), with linearizing diodes, SSOP24
part A pins: 1, 2 DIODE_BIAS, 3 +, 4 -, 5, 7 NC, 18 NC
part B pins: 8, 9 -, 10 +, 11 DIODE_BIAS, 12
part C pins: 13, 14 DIODE_BIAS, 15 +, 16 -, 17
part D pins: 20, 21 -, 22 +, 23 DIODE_BIAS, 24
part E pins: 6 V-, 19 V+

## CA3080
designator *  value CA3080  Reference: U
2MHz, Operational Transconductance Amplifier (OTA), gM spread 2:1, DIP-8/SOIC-8; ki_keywords: operational transconductance amplifier ota; ki_fp_filters: DIP*W7.62mm* SOIC*3.9x4.9mm*P1.27mm*; Datasheet: http://www.intersil.com/content/dam/Intersil/documents/ca30/ca3080-a.pdf; Description_: 2MHz, Operational Transconductance Amplifier (OTA), gM spread 2:1, DIP-8/SOIC-8
pins: 1 NC, 2 -, 3 +, 4 V-, 5 BIAS, 6, 7 V+, 8 NC

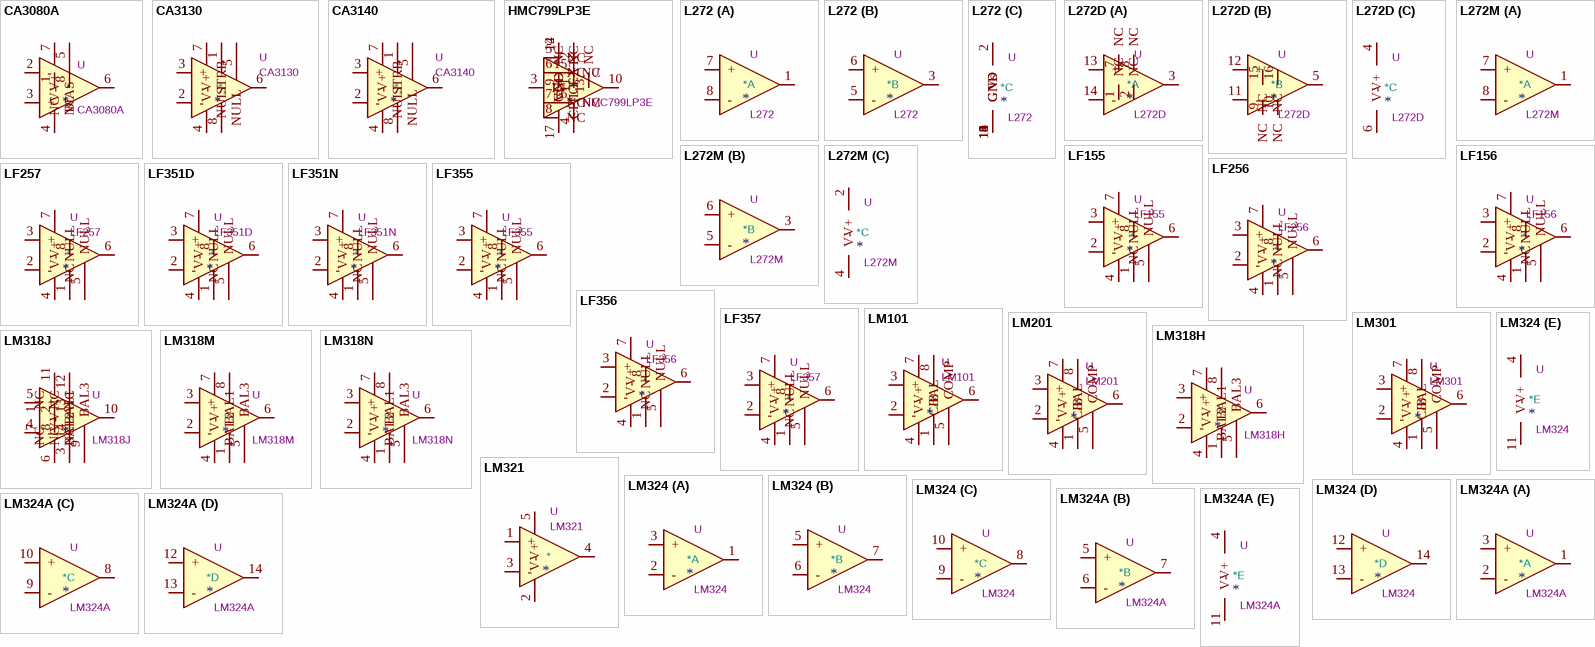
[diagram p3: symbols CA3080A to LM324A]

## CA3080A
designator *  value CA3080A  Reference: U
2MHz, Operational Transconductance Amplifier (OTA), gM spread 1.6:1, DIP-8/SOIC-8; ki_keywords: operational transconductance amplifier ota; ki_fp_filters: DIP*W7.62mm* SOIC*3.9x4.9mm*P1.27mm*; Datasheet: http://www.intersil.com/content/dam/Intersil/documents/ca30/ca3080-a.pdf; Description_: 2MHz, Operational Transconductance Amplifier (OTA), gM spread 1.6:1, DIP-8/SOIC-8
pins: 1 NC, 2 -, 3 +, 4 V-, 5 BIAS, 6, 7 V+, 8 NC

## CA3130
designator *  value CA3130  Reference: U
15MHz, BiMOS Operational Amplifier with MOSFET Input/CMOS Output, DIP-8/SOIC-8; ki_keywords: single opamp; ki_fp_filters: DIP*W7.62mm* SOIC*3.9x4.9mm*P1.27mm*; Datasheet: http://www.intersil.com/content/dam/intersil/documents/ca31/ca3130-a.pdf; Description_: 15MHz, BiMOS Operational Amplifier with MOSFET Input/CMOS Output, DIP-8/SOIC-8
pins: 1 NULL, 2 -, 3 +, 4 V-, 5 NULL, 6, 7 V+, 8 STRB

## CA3140
designator *  value CA3140  Reference: U
4.5MHz, BiMOS Operational Amplifier with MOSFET Input/Bipolar Output, DIP-8/SOIC-8; ki_keywords: single opamp; ki_fp_filters: DIP*W7.62mm* SOIC*3.9x4.9mm*P1.27mm*; Datasheet: http://www.intersil.com/content/dam/intersil/documents/ca31/ca3140-a.pdf; Description_: 4.5MHz, BiMOS Operational Amplifier with MOSFET Input/Bipolar Output, DIP-8/SOIC-8
pins: 1 NULL, 2 -, 3 +, 4 V-, 5 NULL, 6, 7 V+, 8 STRB

## HMC799LP3E
designator *  value HMC799LP3E  Reference: U
DC - 700 MHz, 10 kOhm Transimpedance amplifier, QFN-16; ki_keywords: amplifier transimpedance; ki_fp_filters: QFN*1EP*3x3mm*P0.5mm*; Footprint: Package_DFN_QFN:QFN-16-1EP_3x3mm_P0.5mm_EP1.75x1.75mm; Datasheet: https://www.analog.com/media/en/technical-documentation/data-sheets/hmc799.pdf; Description_: DC - 700 MHz, 10 kOhm Transimpedance amplifier, QFN-16
pins: 1 VCC, 2 CFILT, 3 IN, 4 CEXT, 5 NC, 6 NC, 7 NC, 8 NC, 9 NC, 10, 11 NC, 12 VCC, 13 NC, 14 VCC, 15 NC, 16 NC, 17 GND

## L272
designator *  value L272  Reference: U
Dual Power Operation Amplifier, DIP-16; ki_keywords: dual power opamp; ki_fp_filters: *DIP*W7.62mm*; Footprint: Package_DIP:DIP-16_W7.62mm; Datasheet: www.st.com/resource/en/datasheet/l272.pdf; Description_: Dual Power Operation Amplifier, DIP-16
part A pins: 1, 7 +, 8 -
part B pins: 3, 5 -, 6 +
part C pins: 2 Vs, 4 GND, 9 GND, 10 GND, 11 GND, 12 GND, 13 GND, 14 GND, 15 GND, 16 GND

## L272D
designator *  value L272D  Reference: U
Dual Power Operation Amplifier, SOIC-16; ki_keywords: dual power opamp; ki_fp_filters: *SOIC*3.9x9.9mm*P1.27mm*; Footprint: Package_SO:SOIC-16_3.9x9.9mm_P1.27mm; Datasheet: www.st.com/resource/en/datasheet/l272.pdf; Description_: Dual Power Operation Amplifier, SOIC-16
part A pins: 1 NC, 2 NC, 3, 7 NC, 8 NC, 13 +, 14 -
part B pins: 5, 9 NC, 10 NC, 11 -, 12 +, 15 NC, 16 NC
part C pins: 4 V+, 6 V-

## L272M
designator *  value L272M  Reference: U
Dual Power Operation Amplifier, DIP-8; ki_keywords: dual power opamp; ki_fp_filters: *DIP*W7.62mm*; Footprint: Package_DIP:DIP-8_W7.62mm_LongPads; Datasheet: www.st.com/resource/en/datasheet/l272.pdf; Description_: Dual Power Operation Amplifier, DIP-8
part A pins: 1, 7 +, 8 -
part B pins: 3, 5 -, 6 +
part C pins: 2 V+, 4 V-

## LF155
designator *  value LF155  Reference: U
Single JFET Input Operational Amplifiers, DIP-8/SOIC-8; ki_keywords: single jfet opamp; ki_fp_filters: SOIC*3.9x4.9mm*P1.27mm* DIP*W7.62mm* TSSOP*3x3mm*P0.65mm*; Datasheet: http://www.ti.com/lit/ds/symlink/lf357.pdf; Description_: Single JFET Input Operational Amplifiers, DIP-8/SOIC-8
pins: 1 NULL, 2 -, 3 +, 4 V-, 5 NULL, 6, 7 V+, 8 NC

## LF156
designator *  value LF156  Reference: U
Single JFET Input Operational Amplifiers, DIP-8/SOIC-8; ki_keywords: single jfet opamp; ki_fp_filters: SOIC*3.9x4.9mm*P1.27mm* DIP*W7.62mm* TSSOP*3x3mm*P0.65mm*; Datasheet: http://www.ti.com/lit/ds/symlink/lf357.pdf; Description_: Single JFET Input Operational Amplifiers, DIP-8/SOIC-8
pins: 1 NULL, 2 -, 3 +, 4 V-, 5 NULL, 6, 7 V+, 8 NC

## LF256
designator *  value LF256  Reference: U
Single JFET Input Operational Amplifiers, DIP-8/SOIC-8; ki_keywords: single jfet opamp; ki_fp_filters: SOIC*3.9x4.9mm*P1.27mm* DIP*W7.62mm* TSSOP*3x3mm*P0.65mm*; Datasheet: http://www.ti.com/lit/ds/symlink/lf357.pdf; Description_: Single JFET Input Operational Amplifiers, DIP-8/SOIC-8
pins: 1 NULL, 2 -, 3 +, 4 V-, 5 NULL, 6, 7 V+, 8 NC

## LF257
designator *  value LF257  Reference: U
Single JFET Input Operational Amplifiers, DIP-8/SOIC-8; ki_keywords: single jfet opamp; ki_fp_filters: SOIC*3.9x4.9mm*P1.27mm* DIP*W7.62mm* TSSOP*3x3mm*P0.65mm*; Datasheet: http://www.ti.com/lit/ds/symlink/lf357.pdf; Description_: Single JFET Input Operational Amplifiers, DIP-8/SOIC-8
pins: 1 NULL, 2 -, 3 +, 4 V-, 5 NULL, 6, 7 V+, 8 NC

## LF351D
designator *  value LF351D  Reference: U
Wide bandwidth single JFET operational amplifier, SOIC-8; ki_keywords: Single OpAmp JFET; ki_fp_filters: SOIC*3.9x4.9mm*P1.27mm*; Datasheet: https://www.st.com/resource/en/datasheet/lf351.pdf; Description_: Wide bandwidth single JFET operational amplifier, SOIC-8
pins: 1 NULL, 2 -, 3 +, 4 V-, 5 NULL, 6, 7 V+, 8 NC

## LF351N
designator *  value LF351N  Reference: U
Wide bandwidth single JFET operational amplifier, DIP-8; ki_keywords: Single OpAmp JFET; ki_fp_filters: DIP*W7.62mm*; Datasheet: https://www.st.com/resource/en/datasheet/lf351.pdf; Description_: Wide bandwidth single JFET operational amplifier, DIP-8
pins: 1 NULL, 2 -, 3 +, 4 V-, 5 NULL, 6, 7 V+, 8 NC

## LF355
designator *  value LF355  Reference: U
Single JFET Input Operational Amplifiers, DIP-8/SOIC-8; ki_keywords: single jfet opamp; ki_fp_filters: SOIC*3.9x4.9mm*P1.27mm* DIP*W7.62mm* TSSOP*3x3mm*P0.65mm*; Datasheet: http://www.ti.com/lit/ds/symlink/lf357.pdf; Description_: Single JFET Input Operational Amplifiers, DIP-8/SOIC-8
pins: 1 NULL, 2 -, 3 +, 4 V-, 5 NULL, 6, 7 V+, 8 NC

## LF356
designator *  value LF356  Reference: U
Single JFET Input Operational Amplifiers, DIP-8/SOIC-8; ki_keywords: single jfet opamp; ki_fp_filters: SOIC*3.9x4.9mm*P1.27mm* DIP*W7.62mm* TSSOP*3x3mm*P0.65mm*; Datasheet: http://www.ti.com/lit/ds/symlink/lf357.pdf; Description_: Single JFET Input Operational Amplifiers, DIP-8/SOIC-8
pins: 1 NULL, 2 -, 3 +, 4 V-, 5 NULL, 6, 7 V+, 8 NC

## LF357
designator *  value LF357  Reference: U
Single JFET Input Operational Amplifiers, DIP-8/SOIC-8; ki_keywords: single jfet opamp; ki_fp_filters: SOIC*3.9x4.9mm*P1.27mm* DIP*W7.62mm* TSSOP*3x3mm*P0.65mm*; Datasheet: http://www.ti.com/lit/ds/symlink/lf357.pdf; Description_: Single JFET Input Operational Amplifiers, DIP-8/SOIC-8
pins: 1 NULL, 2 -, 3 +, 4 V-, 5 NULL, 6, 7 V+, 8 NC

## LM101
designator *  value LM101  Reference: U
Operational Amplifier, DIP-8/TO-99-8; ki_keywords: single opamp; ki_fp_filters: DIP*W7.62mm* SOIC*3.9x4.9mm*P1.27mm* TO?5*; Datasheet: http://www.ti.com/lit/ds/symlink/lm101a-n.pdf; Description_: Operational Amplifier, DIP-8/TO-99-8
pins: 1 BAL, 2 -, 3 +, 4 V-, 5 COMP, 6, 7 V+, 8 C/B

## LM201
designator *  value LM201  Reference: U
Operational Amplifier, DIP-8/TO-99-8; ki_keywords: single opamp; ki_fp_filters: DIP*W7.62mm* SOIC*3.9x4.9mm*P1.27mm* TO?5*; Datasheet: http://www.ti.com/lit/ds/symlink/lm101a-n.pdf; Description_: Operational Amplifier, DIP-8/TO-99-8
pins: 1 BAL, 2 -, 3 +, 4 V-, 5 COMP, 6, 7 V+, 8 C/B

## LM301
designator *  value LM301  Reference: U
Operational Amplifier, DIP-8/TO-99-8; ki_keywords: single opamp; ki_fp_filters: DIP*W7.62mm* SOIC*3.9x4.9mm*P1.27mm* TO?5*; Datasheet: http://www.ti.com/lit/ds/symlink/lm101a-n.pdf; Description_: Operational Amplifier, DIP-8/TO-99-8
pins: 1 BAL, 2 -, 3 +, 4 V-, 5 COMP, 6, 7 V+, 8 C/B

## LM318H
designator *  value LM318H  Reference: U
Operational Amplifier, TO-99-8; ki_keywords: single opamp; ki_fp_filters: SOIC*3.9x4.9mm*P1.27mm* DIP*W7.62mm* TO*99*; Datasheet: http://www.ti.com/lit/ds/symlink/lm318-n.pdf; Description_: Operational Amplifier, TO-99-8
pins: 1 BAL1, 2 -, 3 +, 4 V-, 5 BAL3, 6, 7 V+, 8 BAL2

## LM318J
designator *  value LM318J  Reference: U
Operational Amplifier, DIP-14; ki_keywords: single opamp; ki_fp_filters: DIP*W7.62mm*; Footprint: Package_DIP:DIP-14_W7.62mm; Datasheet: http://www.ti.com/lit/ds/symlink/lm318-n.pdf; Description_: Operational Amplifier, DIP-14
pins: 1 NC, 2 NC, 3 BAL1, 4 -, 5 +, 6 V-, 7 NC, 8 NC, 9 BAL3, 10, 11 V+, 12 BAL2, 13 NC, 14 NC

## LM318M
designator *  value LM318M  Reference: U
Operational Amplifier, SOIC-8; ki_keywords: single opamp; ki_fp_filters: SOIC*3.9x4.9mm*P1.27mm* DIP*W7.62mm* TO*99*; Datasheet: http://www.ti.com/lit/ds/symlink/lm318-n.pdf; Description_: Operational Amplifier, SOIC-8
pins: 1 BAL1, 2 -, 3 +, 4 V-, 5 BAL3, 6, 7 V+, 8 BAL2

## LM318N
designator *  value LM318N  Reference: U
Operational Amplifier, DIP-8; ki_keywords: single opamp; ki_fp_filters: SOIC*3.9x4.9mm*P1.27mm* DIP*W7.62mm* TO*99*; Datasheet: http://www.ti.com/lit/ds/symlink/lm318-n.pdf; Description_: Operational Amplifier, DIP-8
pins: 1 BAL1, 2 -, 3 +, 4 V-, 5 BAL3, 6, 7 V+, 8 BAL2

## LM321
designator *  value LM321  Reference: U
Low Power Single Operational Amplifier, SOT-23-5; ki_keywords: single opamp; ki_fp_filters: SOT?23*; Footprint: Package_TO_SOT_SMD:SOT-23-5; Datasheet: http://www.ti.com/lit/ds/symlink/lm321.pdf; Description_: Low Power Single Operational Amplifier, SOT-23-5
pins: 1 +, 2 V-, 3 -, 4, 5 V+

## LM324
designator *  value LM324  Reference: U
Low-Power, Quad-Operational Amplifiers, DIP-14/SOIC-14/SSOP-14; ki_keywords: quad opamp; ki_fp_filters: SOIC*3.9x8.7mm*P1.27mm* DIP*W7.62mm* TSSOP*4.4x5mm*P0.65mm* SSOP*5.3x6.2mm*P0.65mm* MSOP*3x3mm*P0.5mm*; Datasheet: http://www.ti.com/lit/ds/symlink/lm2902-n.pdf; Description_: Low-Power, Quad-Operational Amplifiers, DIP-14/SOIC-14/SSOP-14
part A pins: 1, 2 -, 3 +
part B pins: 5 +, 6 -, 7
part C pins: 8, 9 -, 10 +
part D pins: 12 +, 13 -, 14
part E pins: 4 V+, 11 V-

## LM324A
designator *  value LM324A  Reference: U
Low-Power, Quad-Operational Amplifiers, DIP-14/SOIC-14/SSOP-14; ki_keywords: quad opamp; ki_fp_filters: SOIC*3.9x8.7mm*P1.27mm* DIP*W7.62mm* TSSOP*4.4x5mm*P0.65mm* SSOP*5.3x6.2mm*P0.65mm* MSOP*3x3mm*P0.5mm*; Datasheet: http://www.ti.com/lit/ds/symlink/lm2902-n.pdf; Description_: Low-Power, Quad-Operational Amplifiers, DIP-14/SOIC-14/SSOP-14
part A pins: 1, 2 -, 3 +
part B pins: 5 +, 6 -, 7
part C pins: 8, 9 -, 10 +
part D pins: 12 +, 13 -, 14
part E pins: 4 V+, 11 V-

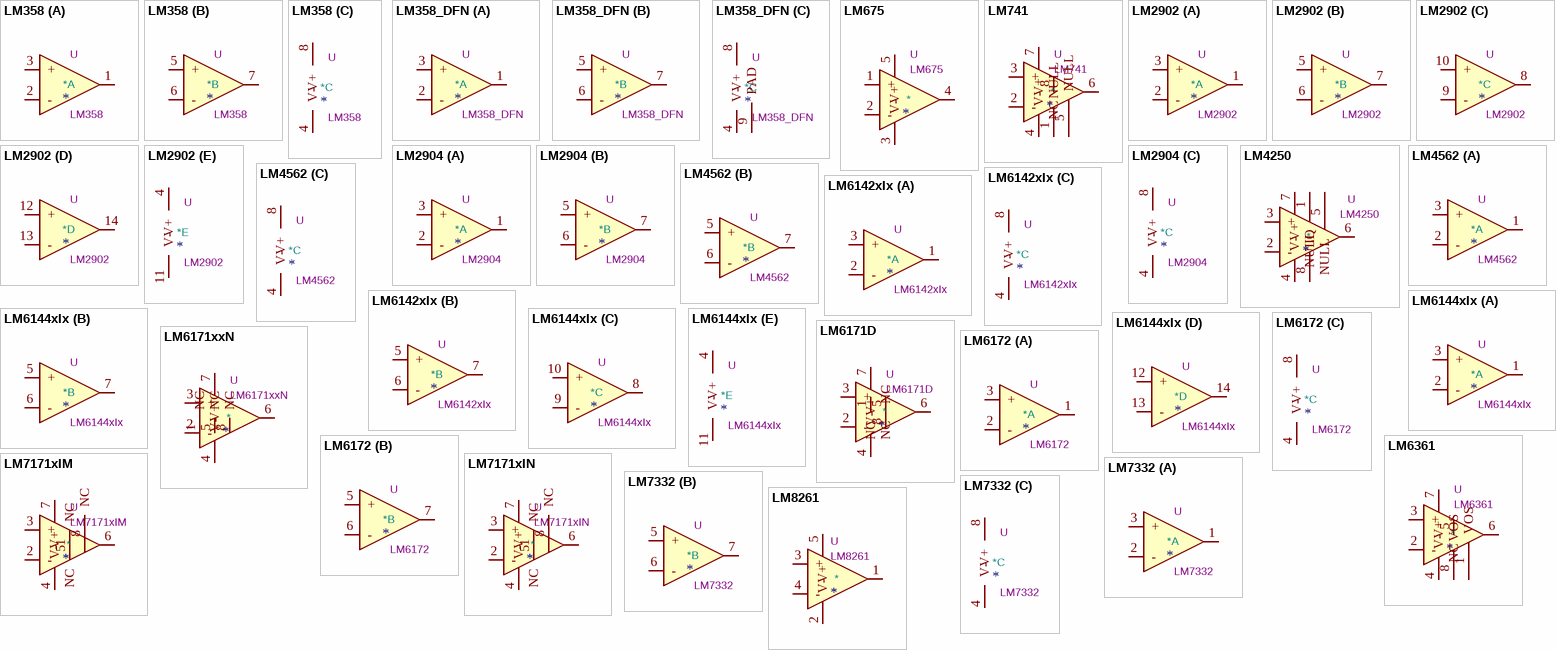
[diagram p4: symbols LM358 to LM8261]

## LM358
designator *  value LM358  Reference: U
Low-Power, Dual Operational Amplifiers, DIP-8/SOIC-8/TO-99-8; ki_keywords: dual opamp; ki_fp_filters: SOIC*3.9x4.9mm*P1.27mm* DIP*W7.62mm* TO*99* OnSemi*Micro8* TSSOP*3x3mm*P0.65mm* TSSOP*4.4x3mm*P0.65mm* MSOP*3x3mm*P0.65mm* SSOP*3.9x4.9mm*P0.635mm* LFCSP*2x2mm*P0.5mm* *SIP* SOIC*5.3x6.2mm*P1.27mm*; Datasheet: http://www.ti.com/lit/ds/symlink/lm2904-n.pdf; Description_: Low-Power, Dual Operational Amplifiers, DIP-8/SOIC-8/TO-99-8
part A pins: 1, 2 -, 3 +
part B pins: 5 +, 6 -, 7
part C pins: 4 V-, 8 V+

## LM358_DFN
designator *  value LM358_DFN  Reference: U
Low-Power, Dual Operational Amplifiers, DFN-8; ki_keywords: dual opamp; ki_fp_filters: DFN*2x2mm*P0.5mm*; Footprint: Package_DFN_QFN:DFN-8-1EP_2x2mm_P0.5mm_EP1.05x1.75mm; Datasheet: www.st.com/resource/en/datasheet/lm358.pdf; Description_: Low-Power, Dual Operational Amplifiers, DFN-8
part A pins: 1, 2 -, 3 +
part B pins: 5 +, 6 -, 7
part C pins: 4 V-, 8 V+, 9 PAD

## LM675
designator *  value LM675  Reference: U
Power Operational Amplifier, TO-220-5; ki_keywords: single opamp; ki_fp_filters: TO?220?5*StaggerOdd*; Footprint: Package_TO_SOT_THT:TO-220-5_P3.4x3.7mm_StaggerOdd_Lead3.8mm_Vertical; Datasheet: http://www.ti.com/lit/ds/symlink/lm675.pdf; Description_: Power Operational Amplifier, TO-220-5
pins: 1 +, 2 -, 3 V-, 4, 5 V+

## LM741
designator *  value LM741  Reference: U
Operational Amplifier, DIP-8/TO-99-8; ki_keywords: single opamp; ki_fp_filters: SOIC*3.9x4.9mm*P1.27mm* DIP*W7.62mm* TSSOP*3x3mm*P0.65mm*; Datasheet: http://www.ti.com/lit/ds/symlink/lm741.pdf; Description_: Operational Amplifier, DIP-8/TO-99-8
pins: 1 NULL, 2 -, 3 +, 4 V-, 5 NULL, 6, 7 V+, 8 NC

## LM2902
designator *  value LM2902  Reference: U
Low-Power, Quad-Operational Amplifiers, DIP-14/SOIC-14/SSOP-14; ki_keywords: quad opamp; ki_fp_filters: SOIC*3.9x8.7mm*P1.27mm* DIP*W7.62mm* TSSOP*4.4x5mm*P0.65mm* SSOP*5.3x6.2mm*P0.65mm* MSOP*3x3mm*P0.5mm*; Datasheet: http://www.ti.com/lit/ds/symlink/lm2902-n.pdf; Description_: Low-Power, Quad-Operational Amplifiers, DIP-14/SOIC-14/SSOP-14
part A pins: 1, 2 -, 3 +
part B pins: 5 +, 6 -, 7
part C pins: 8, 9 -, 10 +
part D pins: 12 +, 13 -, 14
part E pins: 4 V+, 11 V-

## LM2904
designator *  value LM2904  Reference: U
Dual Operational Amplifiers, DIP-8/SOIC-8/TSSOP-8/VSSOP-8; ki_keywords: dual opamp; ki_fp_filters: SOIC*3.9x4.9mm*P1.27mm* DIP*W7.62mm* TO*99* OnSemi*Micro8* TSSOP*3x3mm*P0.65mm* TSSOP*4.4x3mm*P0.65mm* MSOP*3x3mm*P0.65mm* SSOP*3.9x4.9mm*P0.635mm* LFCSP*2x2mm*P0.5mm* *SIP* SOIC*5.3x6.2mm*P1.27mm*; Datasheet: http://www.ti.com/lit/ds/symlink/lm358.pdf; Description_: Dual Operational Amplifiers, DIP-8/SOIC-8/TSSOP-8/VSSOP-8
part A pins: 1, 2 -, 3 +
part B pins: 5 +, 6 -, 7
part C pins: 4 V-, 8 V+

## LM4250
designator *  value LM4250  Reference: U
Programmable Operational Amplifier, DIP-8/SOIC-8; ki_keywords: Programmable opamp; ki_fp_filters: DIP*W7.62mm* SOIC*3.9x4.9mm*P1.27mm* TO?5*; Datasheet: http://www.ti.com/lit/ds/symlink/lm4250.pdf; Description_: Programmable Operational Amplifier, DIP-8/SOIC-8
pins: 1 NULL, 2 -, 3 +, 4 V-, 5 NULL, 6, 7 V+, 8 IQ

## LM4562
designator *  value LM4562  Reference: U
Dual High-Performance, High-Fidelity Audio Operational Amplifier, DIP-8/SOIC-8/TO-99-8; ki_keywords: dual opamp; ki_fp_filters: SOIC*3.9x4.9mm*P1.27mm* DIP*W7.62mm* TO*99* OnSemi*Micro8* TSSOP*3x3mm*P0.65mm* TSSOP*4.4x3mm*P0.65mm* MSOP*3x3mm*P0.65mm* SSOP*3.9x4.9mm*P0.635mm* LFCSP*2x2mm*P0.5mm* *SIP* SOIC*5.3x6.2mm*P1.27mm*; Datasheet: http://www.ti.com/lit/ds/symlink/lm4562.pdf; Description_: Dual High-Performance, High-Fidelity Audio Operational Amplifier, DIP-8/SOIC-8/TO-99-8
part A pins: 1, 2 -, 3 +
part B pins: 5 +, 6 -, 7
part C pins: 4 V-, 8 V+

## LM6142xIx
designator *  value LM6142xIx  Reference: U
Dual Operational Amplifiers, 17MHz, DIP-8/SOIC-8; ki_keywords: dual opamp rail; ki_fp_filters: SOIC*3.9x4.9mm*P1.27mm* DIP*W7.62mm*; Datasheet: https://www.ti.com/lit/ds/symlink/lm6142.pdf; Description_: Dual Operational Amplifiers, 17MHz, DIP-8/SOIC-8
part A pins: 1, 2 -, 3 +
part B pins: 5 +, 6 -, 7
part C pins: 4 V-, 8 V+

## LM6144xIx
designator *  value LM6144xIx  Reference: U
Low-Power, Quad-Operational Amplifiers, 17MHz, DIP-14/SOIC-14; ki_keywords: quad opamp rail; ki_fp_filters: SOIC*3.9x8.7mm*P1.27mm* DIP*W7.62mm*; Datasheet: https://www.ti.com/lit/ds/symlink/lm6142.pdf; Description_: Low-Power, Quad-Operational Amplifiers, 17MHz, DIP-14/SOIC-14
part A pins: 1, 2 -, 3 +
part B pins: 5 +, 6 -, 7
part C pins: 8, 9 -, 10 +
part D pins: 12 +, 13 -, 14
part E pins: 4 V+, 11 V-

## LM6171D
designator *  value LM6171D  Reference: U
High Speed Low Power Low Distortion Voltage Feedback Amplifier, SOIC-8; ki_keywords: single opamp; ki_fp_filters: SOIC*3.9x4.9mm*P1.27mm*; Footprint: Package_SO:SOIC-8_3.9x4.9mm_P1.27mm; Datasheet: http://www.ti.com/lit/ds/symlink/lm6171.pdf; Description_: High Speed Low Power Low Distortion Voltage Feedback Amplifier, SOIC-8
pins: 1 NC, 2 -, 3 +, 4 V-, 5 NC, 6, 7 V+, 8 NC

## LM6171xxN
designator *  value LM6171xxN  Reference: U
Single High Speed Low Power Low Distortion Voltage Feedback Amplifier, DIP-8; ki_keywords: single opamp; ki_fp_filters: DIP*W7.62mm*; Footprint: Package_DIP:DIP-8_W7.62mm; Datasheet: http://www.ti.com/lit/ds/symlink/lm6171.pdf; Description_: Single High Speed Low Power Low Distortion Voltage Feedback Amplifier, DIP-8
pins: 1 NC, 2 -, 3 +, 4 V-, 5 NC, 6, 7 V+, 8 NC

## LM6172
designator *  value LM6172  Reference: U
Dual High Speed, Low Power, Low Distortion, Voltage Feedback Amplifiers, DIP-8/SOIC-8; ki_keywords: dual opamp; ki_fp_filters: SOIC*3.9x4.9mm*P1.27mm* DIP*W7.62mm* TO*99* OnSemi*Micro8* TSSOP*3x3mm*P0.65mm* TSSOP*4.4x3mm*P0.65mm* MSOP*3x3mm*P0.65mm* SSOP*3.9x4.9mm*P0.635mm* LFCSP*2x2mm*P0.5mm* *SIP* SOIC*5.3x6.2mm*P1.27mm*; Datasheet: http://www.ti.com/lit/ds/symlink/lm6172.pdf; Description_: Dual High Speed, Low Power, Low Distortion, Voltage Feedback Amplifiers, DIP-8/SOIC-8
part A pins: 1, 2 -, 3 +
part B pins: 5 +, 6 -, 7
part C pins: 4 V-, 8 V+

## LM6361
designator *  value LM6361  Reference: U
Single High Speed Operational Amplifier, DIP-8/SOIC-8; ki_keywords: single opamp; ki_fp_filters: SOIC*3.9x4.9mm*P1.27mm* DIP*W7.62mm*; Datasheet: http://www.ti.com/lit/ds/symlink/lm6161.pdf; Description_: Single High Speed Operational Amplifier, DIP-8/SOIC-8
pins: 1 VOS, 2 -, 3 +, 4 V-, 5 NC, 6, 7 V+, 8 VOS

## LM7171xIM
designator *  value LM7171xIM  Reference: U
Single Very High Speed High Output Current Voltage Feedback Amplifier, SOIC-8; ki_keywords: single opamp; ki_fp_filters: SOIC*3.9x4.9mm*P1.27mm*; Footprint: Package_SO:SOIC-8_3.9x4.9mm_P1.27mm; Datasheet: https://www.ti.com/lit/ds/symlink/lm7171.pdf; Description_: Single Very High Speed High Output Current Voltage Feedback Amplifier, SOIC-8
pins: 1 NC, 2 -, 3 +, 4 V-, 5 NC, 6, 7 V+, 8 NC

## LM7171xIN
designator *  value LM7171xIN  Reference: U
Single Very High Speed High Output Current Voltage Feedback Amplifier, DIP-8; ki_keywords: single opamp; ki_fp_filters: DIP*W7.62mm*; Footprint: Package_DIP:DIP-8_W7.62mm; Datasheet: https://www.ti.com/lit/ds/symlink/lm7171.pdf; Description_: Single Very High Speed High Output Current Voltage Feedback Amplifier, DIP-8
pins: 1 NC, 2 -, 3 +, 4 V-, 5 NC, 6, 7 V+, 8 NC

## LM7332
designator *  value LM7332  Reference: U
Dual Rail-to-Rail Input and Output 30-V, Wide Voltage Range, High Output, Operational Amplifier, SOIC-8/SSOP-8; ki_keywords: dual opamp; ki_fp_filters: SOIC*3.9x4.9mm*P1.27mm* DIP*W7.62mm* TO*99* OnSemi*Micro8* TSSOP*3x3mm*P0.65mm* TSSOP*4.4x3mm*P0.65mm* MSOP*3x3mm*P0.65mm* SSOP*3.9x4.9mm*P0.635mm* LFCSP*2x2mm*P0.5mm* *SIP* SOIC*5.3x6.2mm*P1.27mm*; Datasheet: http://www.ti.com/lit/ds/symlink/lm7332.pdf; Description_: Dual Rail-to-Rail Input and Output 30-V, Wide Voltage Range, High Output, Operational Amplifier, SOIC-8/SSOP-8
part A pins: 1, 2 -, 3 +
part B pins: 5 +, 6 -, 7
part C pins: 4 V-, 8 V+

## LM8261
designator *  value LM8261  Reference: U
Single Opamp, Rail-to-Rail Input/Output, Unlimited Capacitive Load Drive, +53mA/-75mA Output Current, 2.5-30V, 350uV offset, 12MHz GBW, SOT-23-5; ki_keywords: RRIO CapLoad gate driver; ki_fp_filters: SOT?23*; Footprint: Package_TO_SOT_SMD:SOT-23-5; Datasheet: https://www.ti.com/lit/ds/symlink/lm8261.pdf; Description_: Single Opamp, Rail-to-Rail Input/Output, Unlimited Capacitive Load Drive, +53mA/-75mA Output Current, 2.5-30V, 350uV offset, 12MHz GBW, SOT-23-5
pins: 1, 2 V-, 3 +, 4 -, 5 V+

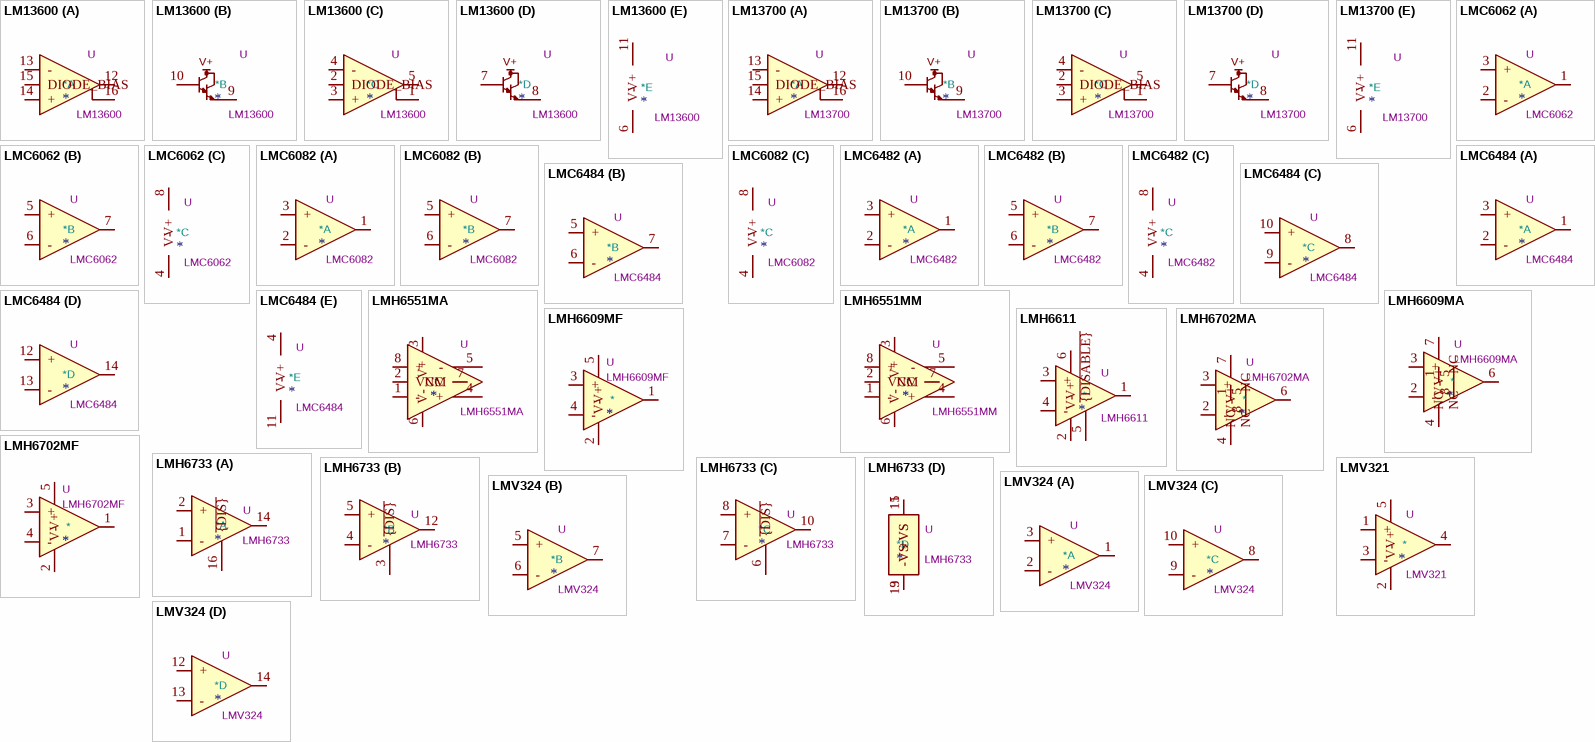
[diagram p5: symbols LM13600 to LMV324]

## LM13600
designator *  value LM13600  Reference: U
Dual Operational Transconductance Amplifiers with Linearizing Diodes and Buffers, DIP-16/SOIC-16; ki_keywords: operational transconductance amplifier OTA; ki_fp_filters: SOIC*3.9x9.9mm*P1.27mm* DIP*W7.62mm*; Datasheet: http://pdf.datasheetcatalog.com/datasheet/nationalsemiconductor/DS007980.PDF; Description_: Dual Operational Transconductance Amplifiers with Linearizing Diodes and Buffers, DIP-16/SOIC-16
part A pins: 12, 13 -, 14 +, 15 DIODE_BIAS, 16
part B pins: 9, 10
part C pins: 1, 2 DIODE_BIAS, 3 +, 4 -, 5
part D pins: 7, 8
part E pins: 6 V-, 11 V+

## LM13700
designator *  value LM13700  Reference: U
Dual Operational Transconductance Amplifiers with Linearizing Diodes and Buffers, DIP-16/SOIC-16; ki_keywords: operational transconductance amplifier OTA; ki_fp_filters: SOIC*3.9x9.9mm*P1.27mm* DIP*W7.62mm*; Datasheet: http://www.ti.com/lit/ds/symlink/lm13700.pdf; Description_: Dual Operational Transconductance Amplifiers with Linearizing Diodes and Buffers, DIP-16/SOIC-16
part A pins: 12, 13 -, 14 +, 15 DIODE_BIAS, 16
part B pins: 9, 10
part C pins: 1, 2 DIODE_BIAS, 3 +, 4 -, 5
part D pins: 7, 8
part E pins: 6 V-, 11 V+

## LMC6062
designator *  value LMC6062  Reference: U
Precision CMOS Dual Micropower Operational Amplifier, DIP-8/SOIC-8; ki_keywords: dual opamp; ki_fp_filters: SOIC*3.9x4.9mm*P1.27mm* DIP*W7.62mm* TO*99* OnSemi*Micro8* TSSOP*3x3mm*P0.65mm* TSSOP*4.4x3mm*P0.65mm* MSOP*3x3mm*P0.65mm* SSOP*3.9x4.9mm*P0.635mm* LFCSP*2x2mm*P0.5mm* *SIP* SOIC*5.3x6.2mm*P1.27mm*; Datasheet: http://www.ti.com/lit/ds/symlink/lmc6062.pdf; Description_: Precision CMOS Dual Micropower Operational Amplifier, DIP-8/SOIC-8
part A pins: 1, 2 -, 3 +
part B pins: 5 +, 6 -, 7
part C pins: 4 V-, 8 V+